# EAGLE library part ESP-WROOM-02 (library CASE-MCU)
ESP-WROOM-02 (ESP8266 from Espressif) Description: ESP-WROOM-02, an ESP8266 from Espressif in SMD package. Links: Datasheet <https://www.espressif.com/sites/default/files/documentation/0c-esp-wroom-02_datasheet_en.pdf> Espressif Documents <https://www.espressif.com/en/support/download/documents> ESP8266-DevKitC (Espressif) <https://www.espressif.com/sites/default/files/documentation/ESP8266-DevKitC-V1.0_reference_design_0.zip>
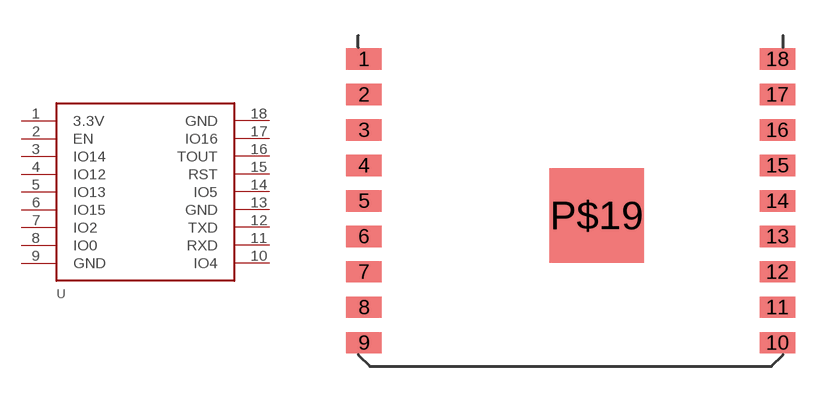
[diagram p13: symbol with the pads of ESP-WROOM-02; footprint ESP-WROOM-02]

Designator prefix U

## ESP-WROOM-02  [ESP-WROOM-02]
1  3.3V  pwr
2  EN  pwr
3  IO14
4  IO12
5  IO13
6  IO15
7  IO2
8  IO0
9  GND  pwr
10  IO4
11  RXD
12  TXD
13  GND  pwr
14  IO5
15  RST
16  TOUT
17  IO16
18  GND  pwr

## Footprint ESP-WROOM-02 (pad centres in mm)
smd 1.5 x 0.9: 1 -8.75,6; 2 -8.75,4.5; 3 -8.75,3; 4 -8.75,1.5; 5 -8.75,0; 6 -8.75,-1.5; 7 -8.75,-3; 8 -8.75,-4.5; 9 -8.75,-6; 10 8.75,-6; 11 8.75,-4.5; 12 8.75,-3; 13 8.75,-1.5; 14 8.75,0; 15 8.75,1.5; 16 8.75,3; 17 8.75,4.5; 18 8.75,6
smd 4 x 4: P$19 1.1,-0.61